# EAGLE library part J1B1211CCD_DEV (library Blizzard_Library)
1278-1052-ND 1 Port RJ45 Magjack Connector Through Hole 10/100 Base-T, AutoMDIX
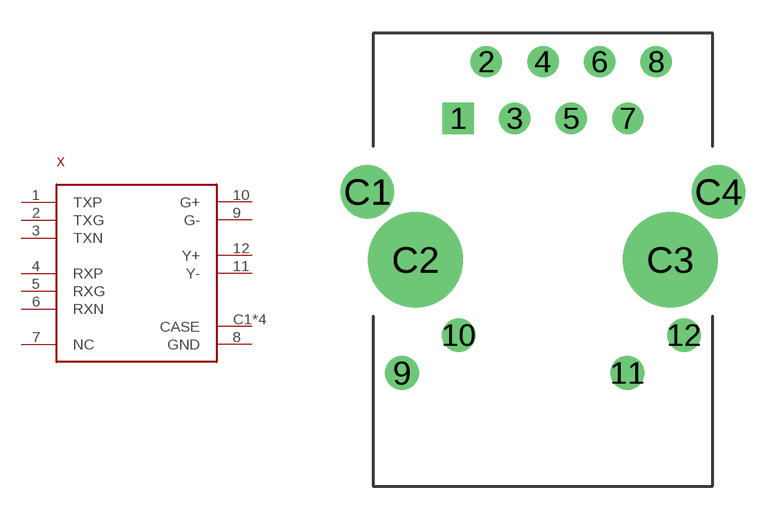
[diagram p20: symbol with the pads of J1B1211CCD_PKG; footprint J1B1211CCD_PKG]

Designator prefix X

## J1B1211CCD_DEV (PN: J1B1211CCD)  [J1B1211CCD_PKG]
1  TXP
2  TXG
3  TXN
4  RXP
5  RXG
6  RXN
7  NC
8  GND
9  G-
10  G+
11  Y-
12  Y+
C1  CASE
C2  CASE
C3  CASE
C4  CASE

## Footprint J1B1211CCD_PKG (pad centres in mm)
drill 0.9 square: 1 -3.81,-2.54
drill 0.9: 2 -2.54,0; 3 -1.27,-2.54; 4 0,0; 5 1.27,-2.54; 6 2.54,0; 7 3.81,-2.54; 8 5.08,0
drill 1: 9 -6.325,-13.97; 10 -3.785,-12.27; 11 3.785,-13.97; 12 6.325,-12.27
drill 1.6: C1 -7.875,-5.84; C4 7.875,-5.84
drill 3.25: C2 -5.715,-8.89; C3 5.715,-8.89